# Altium schematic symbol library GMSK Prototyping Board.SCHLIB: 14 symbols
Pins are listed as number, name and electrical type; pins without a type are passive.

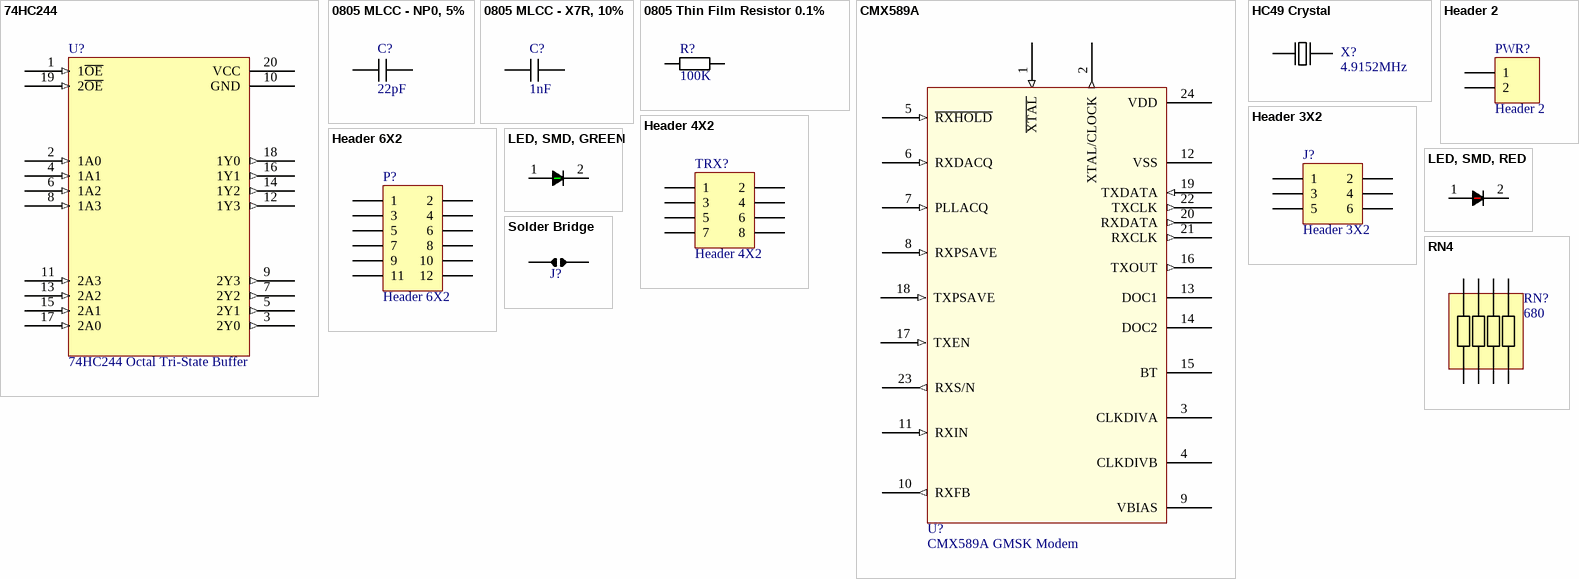
[diagram p0: symbols 74HC244 to Solder Bridge]

## 74HC244
designator U?, comment 74HC244 Octal Tri-State Buffer
Octal Non-Inverting Three state buffer
footprint SOIC20 (SOIC, 20-Leads, Body 13.0x7.5mm (max), Pitch 1.27mm, IPC Medium Density)
pins: 1 1~{OE} (in), 2 1A0 (in), 3 2Y0 (out), 4 1A1 (in), 5 2Y1 (out), 6 1A2 (in), 7 2Y2 (out), 8 1A3 (in), 9 2Y3 (out), 10 GND, 11 2A3 (in), 12 1Y3 (out), 13 2A2 (in), 14 1Y2 (out), 15 2A1 (in), 16 1Y1 (out), 17 2A0 (in), 18 1Y0 (out), 19 2~{OE} (in), 20 VCC

## 0805 MLCC - NP0, 5%
designator C?, comment value 22pF  (hidden comment: 0805 Cap)
0805 MLCC - NP0, 5%
footprint 0805 Cap (0805 Capacitor)
pins: 1, 2

## 0805 MLCC - X7R, 10%
designator C?, comment value 1nF  (hidden comment: 0805 Cap)
0805 MLCC - X7R, 10%
footprint 0805 Cap (0805 Capacitor)
pins: 1, 2

## 0805 Thin Film Resistor 0.1%
designator R?, comment value 100K  (hidden comment: 0805 Resistor)
0805 Thin Film Resistor 0.1%
footprint 0805 Resistor
pins: 1, 2

## CMX589A
designator U?, comment CMX589A GMSK Modem
footprint SOIC24 - GMSK MODEM (SOIC, 24-Leads, Body 15.6x10.6mm (max), Pitch 1.27mm, IPC Medium Density)
pins: 1 ~{XTAL} (in), 2 XTAL/CLOCK (out), 3 CLKDIVA, 4 CLKDIVB, 5 ~{RXHOLD} (in), 6 RXDACQ (in), 7 PLLACQ (in), 8 RXPSAVE (in), 9 VBIAS, 10 RXFB (out), 11 RXIN (in), 12 VSS (power), 13 DOC1, 14 DOC2, 15 BT, 16 TXOUT (out), 17 TXEN (in), 18 TXPSAVE (in), 19 TXDATA (in), 20 RXDATA (out), 21 RXCLK (out), 22 TXCLK (out), 23 RXS/N (out), 24 VDD (power)

## HC49 Crystal
designator X?  value 4.9152MHz  (hidden comment: HC49 Crystal)
footprint HC49 (Crystal Oscilator)
pins: 1, 2

## Header 2
designator PWR?
Header, 2-Pin; LatestRevisionDate: 17-Jul-2002; LatestRevisionNote: Re-released for DXP Platform.; Publisher: Altium Limited
footprint HDR1X2 (Connector; Header; 2 Position)
signal-integrity model Connector
pins: 1, 2

## Header 3X2
designator J?
Header, 3-Pin, Dual row; LatestRevisionDate: 17-Jul-2002; LatestRevisionNote: Re-released for DXP Platform.; Publisher: Altium Limited
footprint HDR2X3 (Connector; Header; 3x2 Position)
signal-integrity model Connector
pins: 1, 2, 3, 4, 5, 6

## Header 4X2
designator TRX?
Header, 4-Pin, Dual row; LatestRevisionDate: 17-Jul-2002; LatestRevisionNote: Re-released for DXP Platform.; Publisher: Altium Limited
footprint HDR2X4 (Connector; Header; 4x2 Position)
signal-integrity model Connector
pins: 1, 2, 3, 4, 5, 6, 7, 8

## Header 6X2
designator P?
Header, 6-Pin, Dual row; LatestRevisionDate: 17-Jul-2002; LatestRevisionNote: Re-released for DXP Platform.; Publisher: Altium Limited
footprint HDR2X6 (Connector; Header; 6x2 Position)
signal-integrity model Connector
pins: 1, 2, 3, 4, 5, 6, 7, 8, 9, 10, 11, 12

## LED, SMD, GREEN
designator PLA?, comment Green LED  (value not drawn)
Chip LED, Green, 0603 Footprint; Farnell Order Number: 1779659
footprint 0603 LED (Chip LED, 2-Leads, Body 1.6x0.8mm, IPC Medium Density)
pins: 1, 2

## LED, SMD, RED
designator RPS?, comment Red LED  (value not drawn)
Chip LED, Red, 0603 Footprint; Farnell Order Number: 1779659
footprint 0603 LED (Chip LED, 2-Leads, Body 1.6x0.8mm, IPC Medium Density)
pins: 1, 2

## RN4
designator RN?  value 680  (hidden comment: RN4)
footprint ACAS_0612_AC (Resistor network)
pins: 1, 2, 3, 4, 5, 6, 7, 8

## Solder Bridge
designator J?, comment Jumper  (value not drawn)
Solder Bridge
footprint Solder Jumper A
footprint Solder Jumper B
footprint Solder Jumper C
footprint Solder Jumper D
footprint Solder Jumper E
pins: 1, 2